# Altium footprint library HDMI_TO_MIPI.PcbLib: 22 footprints (part 1 of 2)
Each footprint in its own frame and in the unit in brackets; x right, y up, seen from the top. Pads: shape width x height; smd on the part's side, far side on the other; paste and mask are expansions set on the pad; w line width, h text height; cw(c..) or ccw(c..) is an arc to the next point about the centre after c.
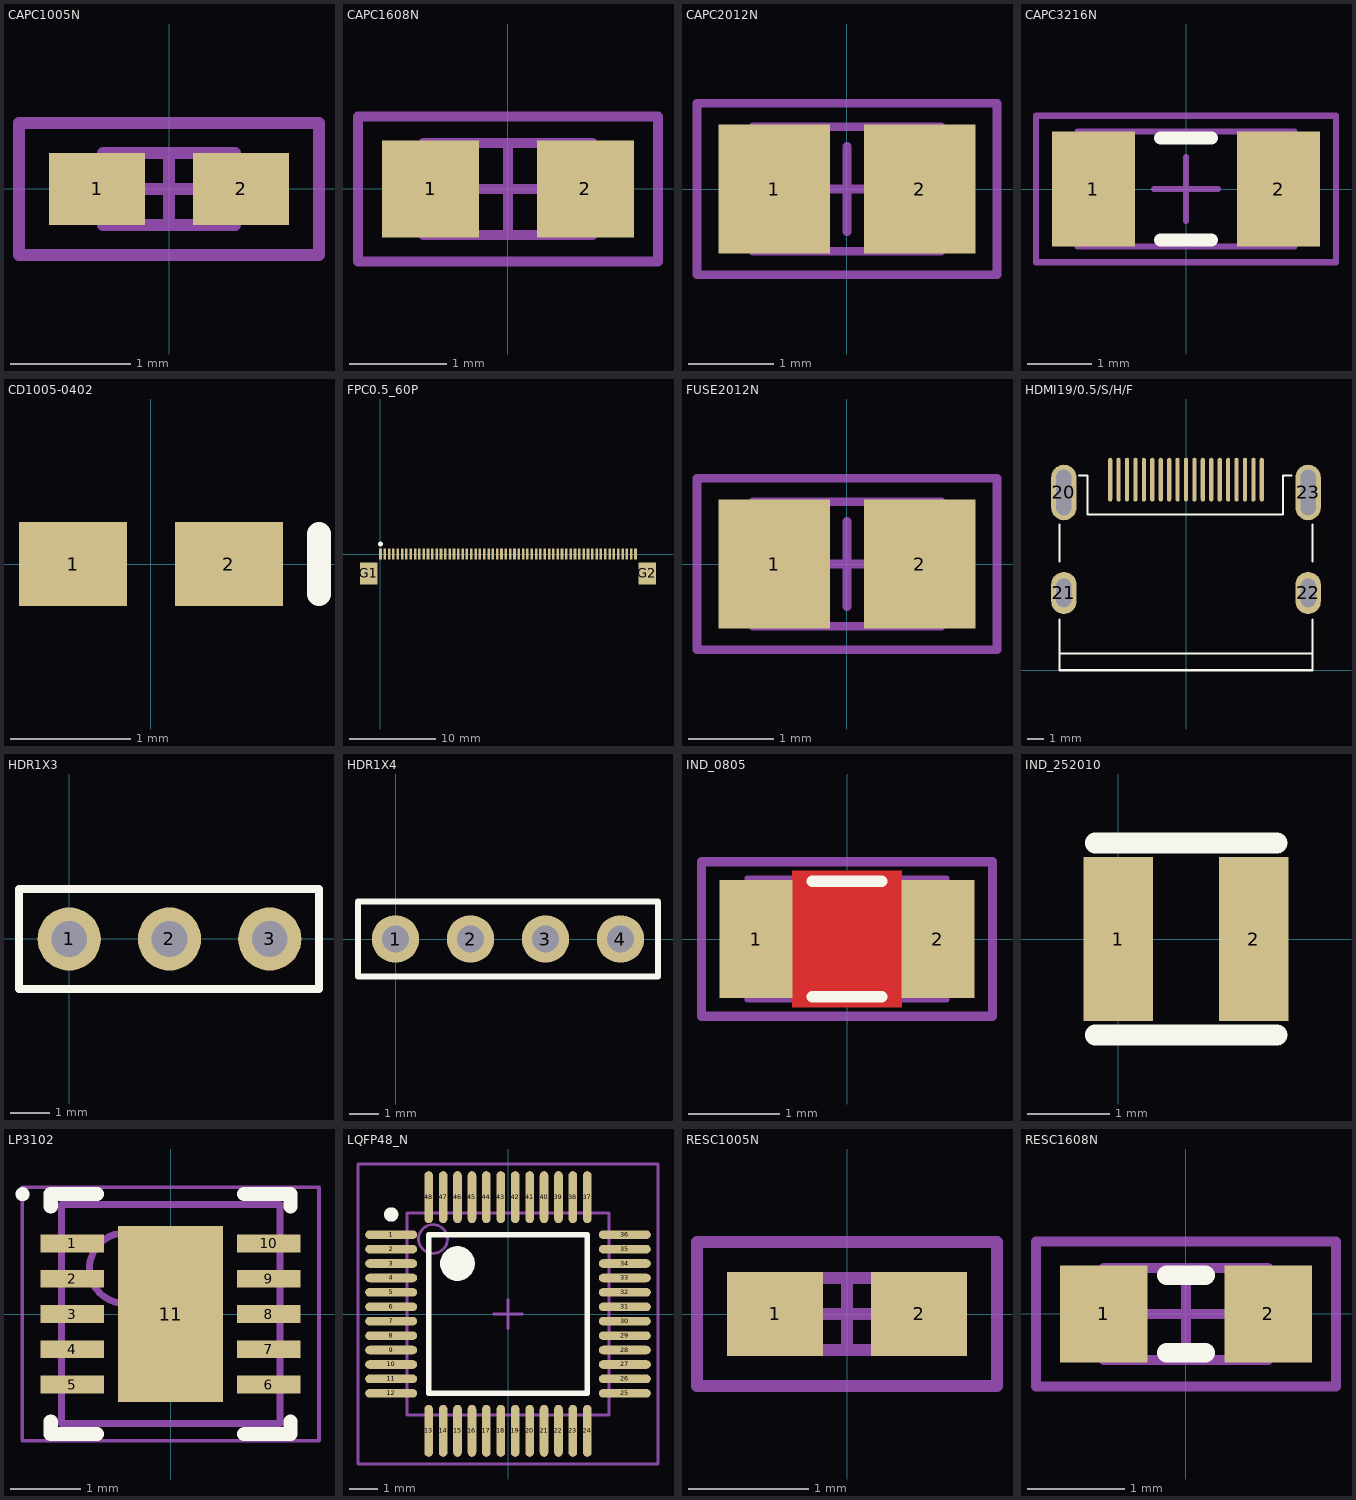
[diagram p0: the footprints below, top view; thin cyan lines are the x and y axes]

## CAPC1005N [mm] "Chip Capacitor, Body 1.0x0.5mm, IPC Medium Density"
height 0.6
pads (2):
  rect 0.8x0.6 smd: 1(-0.6,0) 2(0.6,0)
Mechanical 13:
  lines w0.1: -0.55,-0.3 -0.55,0.3 0.55,0.3 0.55,-0.3 -0.55,-0.3
Mechanical 15:
  lines w0.1: -0.3,0 0.3,0 ; 0,-0.3 0,0.3 ; -1.25,-0.55 -1.25,0.55 1.25,0.55 1.25,-0.55 -1.25,-0.55
3D body: height 0.6, standoff 0, extent -0.55,-0.3 0.55,0.3

## CAPC1608N [mm] "Chip Capacitor, Body 1.6x0.8mm, IPC Medium Density"
height 0.85
pads (2):
  rect 1x1 smd: 1(-0.8,0) 2(0.8,0)
Mechanical 13:
  lines w0.1: -0.875,-0.475 -0.875,0.475 0.875,0.475 0.875,-0.475 -0.875,-0.475
Mechanical 15:
  lines w0.1: -0.475,0 0.475,0 ; 0,-0.475 0,0.475 ; -1.55,-0.75 -1.55,0.75 1.55,0.75 1.55,-0.75 -1.55,-0.75
3D body: height 0.85, standoff 0, extent -0.875,-0.475 0.875,0.475

## CAPC2012N [mm] "Chip Capacitor, Body 2.0x1.3mm, IPC Medium Density"
height 1.1
pads (2):
  rect 1.3x1.5 smd: 1(-0.85,0) 2(0.85,0)
Mechanical 13:
  lines w0.1: -1.1,-0.725 -1.1,0.725 1.1,0.725 1.1,-0.725 -1.1,-0.725
Mechanical 15:
  lines w0.1: -0.5,0 0.5,0 ; 0,-0.5 0,0.5 ; -1.75,-1 -1.75,1 1.75,1 1.75,-1 -1.75,-1
3D body: height 1.1, standoff 0, extent -1.1,-0.725 1.1,0.725

## CAPC3216N [mm] "Chip Capacitor, Body 3.2x1.6mm, IPC Medium Density"
height 1.35
pads (2):
  rect 1.3x1.8 smd: 1(-1.45,0) 2(1.45,0)
Top Overlay:
  lines w0.2: -0.4,-0.8 0.4,-0.8 ; -0.4,0.8 0.4,0.8
Mechanical 13:
  lines w0.1: -1.7,-0.9 1.7,-0.9 1.7,0.9 -1.7,0.9 -1.7,-0.9
Mechanical 15:
  lines w0.1: -0.5,0 0.5,0 ; 0,-0.5 0,0.5 ; -2.35,-1.15 2.35,-1.15 2.35,1.15 -2.35,1.15 -2.35,-1.15
3D body: height 1.35, standoff 0, extent -1.7,-0.9 1.7,0.9

## CD1005-0402 [mm] "Chip Diode; Body 1.0 x 0.5 mm (LxW typ)"
height 0.6
pads (2):
  rect 0.9x0.7 smd: 1(-0.65,0) 2(0.65,0)
Top Overlay:
  lines w0.2: 1.4,-0.25 1.4,0.25

## FPC0.5_60P [mm]
height 2
pads (62):
  rect 0.3x1.3 smd: 1(0,0) 2(0.5,0) 3(1,0) 4(1.5,0) 5(2,0) 6(2.5,0) 7(3,0) 8(3.5,0) 9(4,0) 10(4.5,0) 11(5,0) 12(5.5,0) 13(6,0) 14(6.5,0) 15(7,0) 16(7.5,0) 17(8,0) 18(8.5,0) 19(9,0) 20(9.5,0) 21(10,0) 22(10.5,0) 23(11,0) 24(11.5,0) 25(12,0) 26(12.5,0) 27(13,0) 28(13.5,0) 29(14,0) 30(14.5,0) 31(15,0) 32(15.5,0) 33(16,0) 34(16.5,0) 35(17,0) 36(17.5,0) 37(18,0) 38(18.5,0) 39(19,0) 40(19.5,0) 41(20,0) 42(20.5,0) 43(21,0) 44(21.5,0) 45(22,0) 46(22.5,0) 47(23,0) 48(23.5,0) 49(24,0) 50(24.5,0) 51(25,0) 52(25.5,0) 53(26,0) 54(26.5,0) 55(27,0) 56(27.5,0) 57(28,0) 58(28.5,0) 59(29,0) 60(29.5,0)
  rect 2x2.5 smd: G1(-1.35,-2.25) G2(30.85,-2.25)
Top Overlay:
  circle w0.508: c0,1.168 r0.025

## FUSE2012N [mm] "Body 2.0x1.2mm, IPC Low Density"
height 1.1
pads (2):
  rect 1.3x1.5 smd: 1(-0.85,0) 2(0.85,0)
Mechanical 13:
  lines w0.1: -1.1,-0.725 -1.1,0.725 1.1,0.725 1.1,-0.725 -1.1,-0.725
Mechanical 15:
  lines w0.1: -0.5,0 0.5,0 ; 0,-0.5 0,0.5 ; -1.75,-1 -1.75,1 1.75,1 1.75,-1 -1.75,-1
3D body: height 1.1, standoff 0, extent -1.1,-0.725 1.1,0.725

## HDMI19/0.5/S/H/F [mm]
pads (23):
  oval 0.25x2.6 smd: 1(4.5,11.31) 2(4,11.31) 3(3.5,11.31) 4(3,11.31) 5(2.5,11.31) 6(2,11.31) 7(1.5,11.31) 8(1,11.31) 9(0.5,11.31) 10(0,11.31) 11(-0.5,11.31) 12(-1,11.31) 13(-1.5,11.31) 14(-2,11.31) 15(-2.5,11.31) 16(-3,11.31) 17(-3.5,11.31) 18(-4,11.31) 19(-4.5,11.31)
  oval 1.5x3.3 hole 0.9 slot 2.7 at 90 deg: 20(-7.25,10.55) 23(7.25,10.55)
  oval 1.5x2.5 hole 0.9 slot 1.7 at 90 deg: 21(-7.25,4.59) 22(7.25,4.59)
Top Overlay:
  lines w0.127: -7.5,1 7.5,1 ; -7.5,3 -7.5,0 7.5,0 7.5,3 ; -7.5,6.45 -7.5,8.65 ; -6.35,11.55 -5.85,11.55 -5.85,9.25 5.75,9.25 5.75,11.55 6.25,11.55 ; 7.5,6.45 7.5,8.65
Mechanical 1:
  lines w0.1: -7.7,4.19 ccw(c-7.25,4.19) -6.8,4.19 -6.8,4.99 ccw(c-7.25,4.99) -7.7,4.99 -7.7,4.19 ; -7.7,9.65 ccw(c-7.25,9.65) -6.8,9.65 -6.8,11.45 ccw(c-7.25,11.45) -7.7,11.45 -7.7,9.65 ; 6.8,4.19 ccw(c7.25,4.19) 7.7,4.19 7.7,4.99 ccw(c7.25,4.99) 6.8,4.99 6.8,4.19 ; 6.8,9.65 ccw(c7.25,9.65) 7.7,9.65 7.7,11.45 ccw(c7.25,11.45) 6.8,11.45 6.8,9.65
Mechanical 2:
  lines w0.025: 0,0.127 0,0 0.127,0
  text "1_D2+" at 4.4,9.033 h0.2
  text "2_GND" at 3.9,9.033 h0.2
  text "3_D2-" at 3.4,9.033 h0.2
  text "4_D1+" at 2.9,9.033 h0.2
  text "5_GND" at 2.4,9.033 h0.2
  text "6_D1-" at 1.9,9.033 h0.2
  text "7_D0+" at 1.4,9.033 h0.2
  text "8_GND" at 0.9,9.033 h0.2
  text "9_D0-" at 0.4,9.033 h0.2
  text "10_CLK+" at -0.1,9.033 h0.2
  text "11_GND" at -0.6,9.033 h0.2
  text "12_CLK-" at -1.1,9.033 h0.2
  text "13_CEC" at -1.6,9.033 h0.2
  text "14_NC" at -2.1,9.033 h0.2
  text "15_SCL" at -2.6,9.033 h0.2
  text "16_SDA" at -3.1,9.033 h0.2
  text "17_DDC/CEC GND" at -3.6,9.033 h0.2
  text "18_+5V" at -4.1,9.033 h0.2
  text "19_HOT_PLUG_DETECT" at -4.6,9.033 h0.2

## HDR1X3 [mm] "Connector; Header; 3 Position"
pads (3):
  round 1.6 hole 0.9: 1(0,0) 2(2.54,0) 3(5.08,0)
Top Overlay:
  lines w0.2: 6.299,-1.27 -1.27,-1.27 -1.27,1.27 6.325,1.27 6.325,-1.27

## HDR1X4 [mm] "Connector; Header; 4 Position"
pads (4):
  round 1.6 hole 0.9: 1(0,0) 2(2.54,0) 3(5.08,0) 4(7.62,0)
Top Overlay:
  lines w0.2: -1.27,-1.27 8.89,-1.27 8.89,1.27 -1.27,1.27 -1.27,-1.27

## IND_0805 [mm]
pads (2):
  rect 0.8x1.3 smd: 1(-1,0) 2(1,0)
Top Layer:
  pour cut-out: -0.6,0.75 0.6,0.75 0.6,-0.75 -0.6,-0.75
Top Overlay:
  lines w0.127: -0.381,-0.635 0.381,-0.635 ; -0.381,0.635 0.381,0.635
Mechanical 13:
  lines w0.05: 0.6,-0.674 -0.6,-0.674 ; -0.6,-0.674 0.6,-0.674 ; -0.6,-0.675 -1.1,-0.675 -1.1,0.675 -0.6,0.675 -0.6,-0.675 ; 0.6,-0.675 1.1,-0.675 1.1,0.675 0.6,0.675 ; 0.6,-0.675 0.6,0.675 ; 0.6,0.674 -0.6,0.674 0.6,0.674
Mechanical 14:
  lines w0.1: -1.6,-0.85 -1.6,0.85 1.6,0.85 1.6,-0.85 -1.6,-0.85
3D body "FBC_0805.stp": height 0.9, standoff 0, extent -1,-0.625 1,0.625

## IND_252010 [mm]
pads (2):
  rect 0.85x2 smd: 1(0,0) 2(1.65,0)
Top Overlay:
  lines w0.254: -0.279,-1.168 1.93,-1.168 ; -0.279,1.168 1.93,1.168

## LP3102 [mm] "SON, 10-Leads, Body 3.00x3.00mm, Pitch 0.50mm, Thermal Pad 2.50x1.49mm, IPC Medium Density"
height 0.8
pads (11):
  rect 0.9x0.25 smd: 1(-1.395,1) 2(-1.395,0.5) 3(-1.395,0) 4(-1.395,-0.5) 5(-1.395,-1) 6(1.395,-1) 7(1.395,-0.5) 8(1.395,0) 9(1.395,0.5) 10(1.395,1)
  rect 1.49x2.5 smd: 11(0,0)
Top Overlay:
  circle w0.1: c-2.1,1.7 r0.05
  lines w0.2: -1.7,-1.525 -1.7,-1.7 -1.045,-1.7 ; -1.7,1.525 -1.7,1.7 -1.045,1.7 ; 1.045,-1.7 1.7,-1.7 1.7,-1.525 ; 1.045,1.7 1.7,1.7 1.7,1.525
Mechanical 13:
  circle w0.1: c-0.65,0.65 r0.5
  lines w0.1: -1.55,-1.55 -1.55,1.55 1.55,1.55 1.55,-1.55 -1.55,-1.55
Mechanical 15:
  lines w0.05: -2.105,-1.8 -2.105,1.8 2.105,1.8 2.105,-1.8 -2.105,-1.8
  lines w0.1: -0.5,0 0.5,0 ; 0,-0.5 0,0.5
3D body: height 0.8, standoff 0.02, extent -1.55,-1.55 1.55,1.55

## LQFP48_N [mm] "Thin QFP, 48-Leads, Body 7x7mm, Pitch 0.5mm, IPC Medium Density"
height 1.6
pads (48):
  oval 1.8x0.3 smd: 1(-4.05,2.75) 2(-4.05,2.25) 3(-4.05,1.75) 4(-4.05,1.25) 5(-4.05,0.75) 6(-4.05,0.25) 7(-4.05,-0.25) 8(-4.05,-0.75) 9(-4.05,-1.25) 10(-4.05,-1.75) 11(-4.05,-2.25) 12(-4.05,-2.75) 25(4.05,-2.75) 26(4.05,-2.25) 27(4.05,-1.75) 28(4.05,-1.25) 29(4.05,-0.75) 30(4.05,-0.25) 31(4.05,0.25) 32(4.05,0.75) 33(4.05,1.25) 34(4.05,1.75) 35(4.05,2.25) 36(4.05,2.75)
  oval 0.3x1.8 smd: 13(-2.75,-4.05) 14(-2.25,-4.05) 15(-1.75,-4.05) 16(-1.25,-4.05) 17(-0.75,-4.05) 18(-0.25,-4.05) 19(0.25,-4.05) 20(0.75,-4.05) 21(1.25,-4.05) 22(1.75,-4.05) 23(2.25,-4.05) 24(2.75,-4.05) 37(2.75,4.05) 38(2.25,4.05) 39(1.75,4.05) 40(1.25,4.05) 41(0.75,4.05) 42(0.25,4.05) 43(-0.25,4.05) 44(-0.75,4.05) 45(-1.25,4.05) 46(-1.75,4.05) 47(-2.25,4.05) 48(-2.75,4.05)
Top Overlay:
  circle w0.6: c-1.75,1.75 r0.3
  circle w0.25: c-4.05,3.45 r0.125
  lines w0.2: -2.75,-2.75 2.75,-2.75 2.75,2.75 -2.75,2.75 -2.75,-2.75
Mechanical 13:
  circle w0.1: c-2.6,2.6 r0.5
  lines w0.1: -3.5,-3.5 3.5,-3.5 3.5,3.5 -3.5,3.5 -3.5,-3.5
Mechanical 15:
  lines w0.1: -0.5,0 0.5,0 ; 0,-0.5 0,0.5 ; -5.2,-5.2 5.2,-5.2 5.2,5.2 -5.2,5.2 -5.2,-5.2
3D body: height 1.6, standoff 0, extent -3.5,-3.5 3.5,3.5

## RESC1005N [mm] "Chip Resistor, Body 1.1x0.5mm, IPC Medium Density"
height 0.4
pads (2):
  rect 0.8x0.7 smd: 1(-0.6,0) 2(0.6,0)
Mechanical 13:
  lines w0.1: -0.55,-0.3 -0.55,0.3 0.55,0.3 0.55,-0.3 -0.55,-0.3
Mechanical 15:
  lines w0.1: -0.3,0 0.3,0 ; 0,-0.3 0,0.3 ; -1.25,-0.6 -1.25,0.6 1.25,0.6 1.25,-0.6 -1.25,-0.6
3D body: height 0.4, standoff 0, extent -0.55,-0.3 0.55,0.3

## RESC1608N [mm] "Chip Resistor, Body 1.6x0.8mm, IPC Medium Density"
height 0.6
pads (2):
  rect 0.9x1 smd: 1(-0.85,0) 2(0.85,0)
Top Overlay:
  lines w0.2: -0.2,-0.4 0.2,-0.4 ; -0.2,0.4 0.2,0.4
Mechanical 13:
  lines w0.1: -0.85,-0.475 0.85,-0.475 0.85,0.475 -0.85,0.475 -0.85,-0.475
Mechanical 15:
  lines w0.1: -0.475,0 0.475,0 ; 0,-0.475 0,0.475 ; -1.55,-0.75 1.55,-0.75 1.55,0.75 -1.55,0.75 -1.55,-0.75
3D body: height 0.6, standoff 0, extent -0.85,-0.475 0.85,0.475